# EAGLE library part SPARKFUN-CONNECTORS_AVR_SPI_PRG_6 (library v1-cellphone)
AVR ISP 6 Pin This is the reduced ISP connector for AVR programming. Common on Arduino. This footprint will take up less PCB space and can be used with a 10-pin to 6-pin adapter such as SKU: BOB-08508
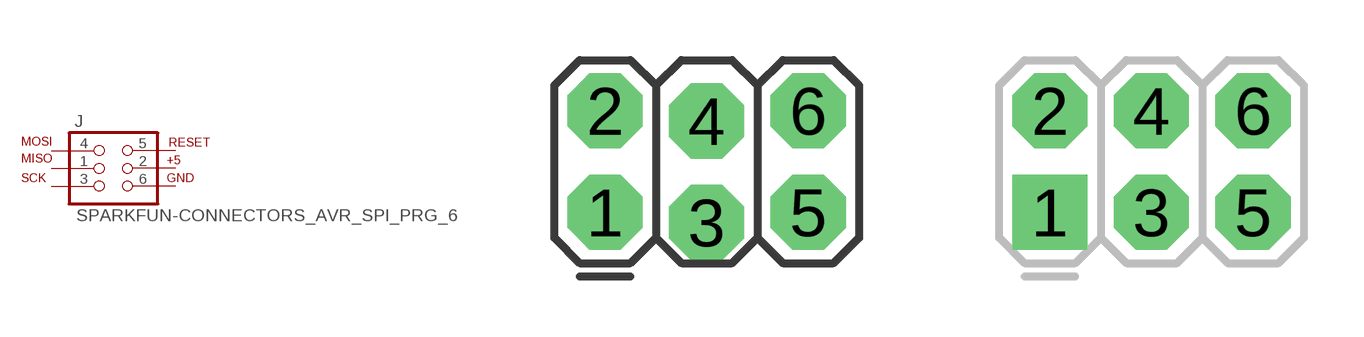
[diagram p2: symbol with the pads of SPARKFUN-CONNECTORS_2X3_LOCK; footprints SPARKFUN-CONNECTORS_2X3_LOCK, SPARKFUN-CONNECTORS_2X3-NS]

Designator prefix J

## SPARKFUN-CONNECTORS_AVR_SPI_PRG_62X3_LOCK  [SPARKFUN-CONNECTORS_2X3_LOCK]
1  1-MISO  pas
2  2-5VCC  pas
3  3-SCK  pas
4  4-MOSI  pas
5  5-RESET  pas
6  6-GND  pas

## SPARKFUN-CONNECTORS_AVR_SPI_PRG_6NS  [SPARKFUN-CONNECTORS_2X3-NS]
Pads as for SPARKFUN-CONNECTORS_2X3_LOCK

## SPARKFUN-CONNECTORS_AVR_SPI_PRG_6OFFSET_PADS  [SPARKFUN-CONNECTORS_2X3_OFFSET]
Pads as for SPARKFUN-CONNECTORS_2X3_LOCK

## SPARKFUN-CONNECTORS_AVR_SPI_PRG_6PTH  [SPARKFUN-CONNECTORS_2X3]
Pads as for SPARKFUN-CONNECTORS_2X3_LOCK

## Footprint SPARKFUN-CONNECTORS_2X3_LOCK (pad centres in mm)
drill 1.016 pad 1.88 octagon: 1 0,0; 2 0,2.54; 3 2.54,-0.254; 4 2.54,2.286; 5 5.08,0; 6 5.08,2.54

## Footprint SPARKFUN-CONNECTORS_2X3-NS (pad centres in mm)
drill 1.016 pad 1.88 square: 1 -2.54,-1.27
drill 1.016 pad 1.88 octagon: 2 -2.54,1.27; 3 0,-1.27; 4 0,1.27; 5 2.54,-1.27; 6 2.54,1.27

## Footprint SPARKFUN-CONNECTORS_2X3_OFFSET (pad centres in mm)
drill 1.118 pad 1.88 offset: 1 -2.54,-1.27; 2 -2.54,1.27; 3 0,-1.27; 4 0,1.27; 5 2.54,-1.27; 6 2.54,1.27

## Footprint SPARKFUN-CONNECTORS_2X3 (pad centres in mm)
drill 1.016 pad 1.88 octagon: 1 0,0; 2 0,2.54; 3 2.54,0; 4 2.54,2.54; 5 5.08,0; 6 5.08,2.54